# EAGLE library part BQ25570 (library energy-harvesting-pmic)
Ultra Low Power Harvester Power Management IC with Boost Charger, and Nanopower Buck Converter The bq25570 device is specifically designed to efficiently extract microwatts (µW) to milliwatts (mW) of power generated from a variety of high output impedance DC sources like photovoltaic (solar) or thermal electric generators (TEG) without collapsing those sources. The battery management features ensure that a rechargeable battery is not overcharged by this extracted power, with voltage boosted, or depleted beyond safe limits by a system load. In addition to the highly efficient boosting charger, the bq25570 integrates a highly efficient, nano- power buck converter for providing a second power rail to systems such as wireless sensor networks (WSN) which have stringent power and operational demands. All the capabilities of bq25570 are packed into a small foot-print 20-lead 3.5-mm × 3.5-mm QFN package (RGR). Source: http://www.ti.com/product/BQ25570
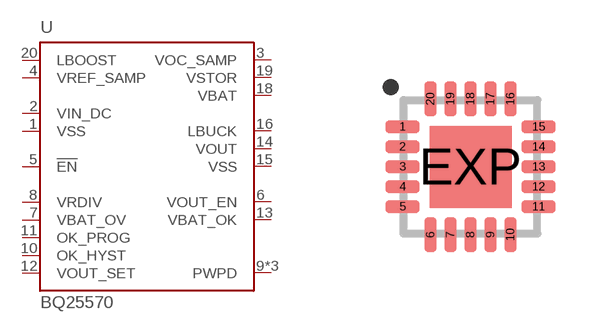
[diagram p0: symbol with the pads of RGR_S-PVQFN-N20; footprint RGR_S-PVQFN-N20]

Designator prefix U

## BQ25570RGR  [RGR_S-PVQFN-N20]
1  VSS  pwr
2  VIN_DC  in
3  VOC_SAMP  in
4  VREF_SAMP  in
5  !EN  in
6  VOUT_EN  in
7  VBAT_OV  in
8  VRDIV  sup
9  PWPD  pwr
10  OK_HYST  in
11  OK_PROG  in
12  VOUT_SET  in
13  VBAT_OK  out
14  VOUT  pwr
15  VSS  pwr
16  LBUCK  pas
17  PWPD  pwr
18  VBAT  pwr
19  VSTOR  pwr
20  LBOOST  pas
EXP  PWPD  pwr

## Footprint RGR_S-PVQFN-N20 (pad centres in mm)
RGR (S-PVQFN-N20) Source: http://www.ti.com/lit/ds/symlink/bq25570.pdf
smd 0.85 x 0.3: 1 -1.7,1; 2 -1.7,0.5; 3 -1.7,0; 4 -1.7,-0.5; 5 -1.7,-1; 11 1.7,-1; 12 1.7,-0.5; 13 1.7,0; 14 1.7,0.5; 15 1.7,1
smd 0.3 x 0.85: 6 -1,-1.7; 7 -0.5,-1.7; 8 0,-1.7; 9 0.5,-1.7; 10 1,-1.7; 16 1,1.7; 17 0.5,1.7; 18 0,1.7; 19 -0.5,1.7; 20 -1,1.7
smd 2.05 x 2.05: EXP 0,0